# Altium schematic symbol library SCH - SENSOR - CAS5075SRA.SchLib: 1 symbol
Pins are listed as number, name and electrical type; pins without a type are passive.

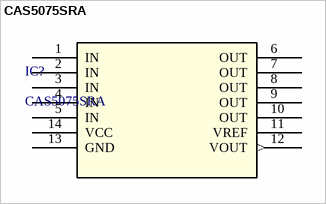
[diagram p0: symbol CAS5075SRA]

## CAS5075SRA
designator IC?
No Description Available; Mfr_Name: LEM; Manufacturer_Part_Number: CASR 15-NP; Copyright: Copyright (C) 2022 Ultra Librarian. All rights reserved.; Digi-Key_Part_Number_1: 398-1092-5-ND; Digi-Key_Part_Number_2: 398-1092-5-NDL; Digi-Key_Part_Number_3: 398-1092-ND; RefDes: RefDes; Type: DEV
footprint CAS5075SRA
pins: 1 IN, 2 IN, 3 IN, 4 IN, 5 IN, 6 OUT, 7 OUT, 8 OUT, 9 OUT, 10 OUT, 11 VREF (power), 12 VOUT (out), 13 GND, 14 VCC (power)